# Altium footprint library sanziqi.PcbLib: 62 footprints (part 1 of 4)
Each footprint in its own frame and in the unit in brackets; x right, y up, seen from the top. Pads: shape width x height; smd on the part's side, far side on the other; paste and mask are expansions set on the pad; w line width, h text height; cw(c..) or ccw(c..) is an arc to the next point about the centre after c.
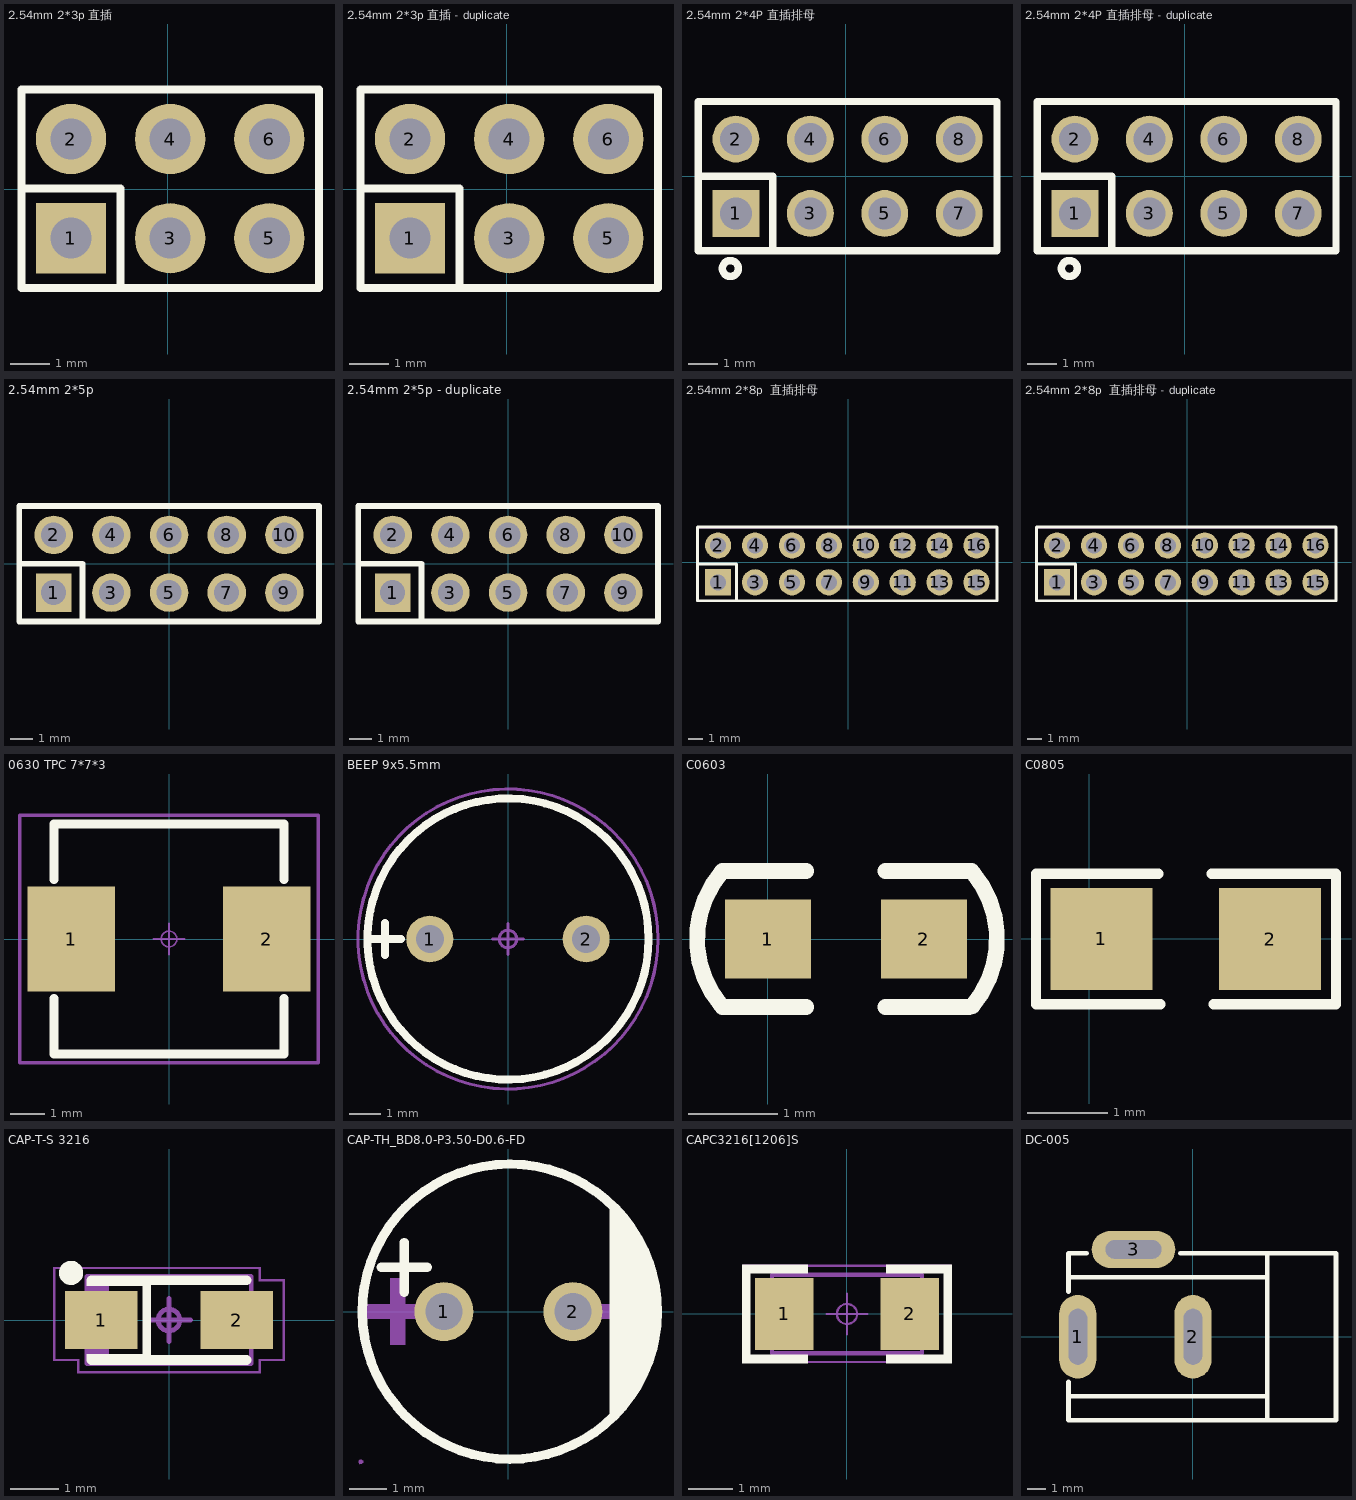
[diagram p0: the footprints below, top view; thin cyan lines are the x and y axes]

## 2.54mm 2*3p 直插 [mm]
height 2
pads (6):
  rect 1.8x1.8 hole 1.05 paste+0 mask+0.051: 1(-2.48,-1.25)
  round 1.8 hole 1.05 paste+0 mask+0.051: 2(-2.48,1.29) 3(0.06,-1.25) 4(0.06,1.29) 5(2.6,-1.25) 6(2.6,1.29)
Top Overlay:
  lines w0.203: -3.75,0.022 -1.21,0.022 -1.21,-2.52 ; -0.998,-2.52 3.87,-2.52 ; 3.87,-2.52 3.87,2.56 -3.75,2.56 -3.75,-2.52 3.87,-2.52
Bottom Component Outline:
  region: -3.69,-2.48 -3.69,-2.455 -3.725,-2.42 -3.775,-2.42 -3.81,-2.455 -3.81,-2.48 -3.81,-2.505 -3.775,-2.54 -3.725,-2.54 -3.69,-2.505
  region: -2.8,1.61 -2.16,1.61 -2.16,0.97 -2.8,0.97
  region: -2.8,-0.93 -2.16,-0.93 -2.16,-1.57 -2.8,-1.57
  region: -0.26,-0.93 0.38,-0.93 0.38,-1.57 -0.26,-1.57
  region: -0.26,1.61 0.38,1.61 0.38,0.97 -0.26,0.97
  region: 2.28,1.61 2.92,1.61 2.92,0.97 2.28,0.97
  region: 2.28,-0.93 2.92,-0.93 2.92,-1.57 2.28,-1.57
  lines w0.051: -3.75,-2.48 -3.75,2.52 3.87,2.52 3.87,-2.48 -3.75,-2.48

## 2.54mm 2*3p 直插 - duplicate [mm]
height 2
pads (6):
  rect 1.8x1.8 hole 1.05 paste+0 mask+0.051: 1(-2.48,-1.25)
  round 1.8 hole 1.05 paste+0 mask+0.051: 2(-2.48,1.29) 3(0.06,-1.25) 4(0.06,1.29) 5(2.6,-1.25) 6(2.6,1.29)
Top Overlay:
  lines w0.203: -3.75,0.022 -1.21,0.022 -1.21,-2.52 ; -0.998,-2.52 3.87,-2.52 ; 3.87,-2.52 -3.75,-2.52 -3.75,2.56 3.87,2.56 3.87,-2.52
Bottom Component Outline:
  region: 2.28,-0.93 2.92,-0.93 2.92,-1.57 2.28,-1.57
  region: 2.28,1.61 2.92,1.61 2.92,0.97 2.28,0.97
  region: -0.26,1.61 0.38,1.61 0.38,0.97 -0.26,0.97
  region: -0.26,-0.93 0.38,-0.93 0.38,-1.57 -0.26,-1.57
  region: -2.8,-0.93 -2.16,-0.93 -2.16,-1.57 -2.8,-1.57
  region: -2.8,1.61 -2.16,1.61 -2.16,0.97 -2.8,0.97
  region: -3.69,-2.48 -3.69,-2.455 -3.725,-2.42 -3.775,-2.42 -3.81,-2.455 -3.81,-2.48 -3.81,-2.505 -3.775,-2.54 -3.725,-2.54 -3.69,-2.505
  lines w0.051: -3.75,-2.48 3.87,-2.48 3.87,2.52 -3.75,2.52 -3.75,-2.48

## 2.54mm 2*4P 直插排母 [mm]
pads (8):
  rect 1.6x1.6 hole 1.1 paste+0 mask+0.051: 1(-3.75,-1.277)
  round 1.6 hole 1.1 paste+0 mask+0.051: 2(-3.75,1.263) 3(-1.21,-1.277) 4(-1.21,1.263) 5(1.33,-1.277) 6(1.33,1.263) 7(3.87,-1.277) 8(3.87,1.263)
Top Overlay:
  circle w0.254: c-3.94,-3.157 r0.272
  lines w0.254: -5.04,-0.007 -2.49,-0.007 -2.49,-2.557 ; -5.04,-2.557 5.16,-2.557 5.16,2.543 -5.04,2.543 -5.04,0.393 -5.04,-2.557
Bottom Component Outline:
  region: -4.96,-2.547 -4.96,-2.522 -4.995,-2.487 -5.045,-2.487 -5.08,-2.522 -5.08,-2.547 -5.08,-2.572 -5.045,-2.607 -4.995,-2.607 -4.96,-2.572
  region: 3.55,1.463 4.19,1.463 4.19,1.063 3.55,1.063
  region: 3.55,-1.077 4.19,-1.077 4.19,-1.477 3.55,-1.477
  region: 1.01,1.463 1.65,1.463 1.65,1.063 1.01,1.063
  region: 1.01,-1.077 1.65,-1.077 1.65,-1.477 1.01,-1.477
  region: -1.53,1.463 -0.89,1.463 -0.89,1.063 -1.53,1.063
  region: -1.53,-1.077 -0.89,-1.077 -0.89,-1.477 -1.53,-1.477
  region: -4.07,1.463 -3.43,1.463 -3.43,1.063 -4.07,1.063
  region: -4.07,-1.077 -3.43,-1.077 -3.43,-1.477 -4.07,-1.477
  lines w0.051: -5.02,-2.547 5.14,-2.547 5.14,2.533 -5.02,2.533 -5.02,-2.547

## 2.54mm 2*4P 直插排母 - duplicate [mm]
pads (8):
  rect 1.6x1.6 hole 1.1 paste+0 mask+0.051: 1(-3.75,-1.277)
  round 1.6 hole 1.1 paste+0 mask+0.051: 2(-3.75,1.263) 3(-1.21,-1.277) 4(-1.21,1.263) 5(1.33,-1.277) 6(1.33,1.263) 7(3.87,-1.277) 8(3.87,1.263)
Top Overlay:
  circle w0.254: c-3.94,-3.157 r0.272
  lines w0.254: -5.04,-0.007 -2.49,-0.007 -2.49,-2.557 ; -5.04,-2.557 -5.04,0.393 -5.04,2.543 5.16,2.543 5.16,-2.557 -5.04,-2.557
Bottom Component Outline:
  region: -4.07,-1.077 -3.43,-1.077 -3.43,-1.477 -4.07,-1.477
  region: -4.07,1.463 -3.43,1.463 -3.43,1.063 -4.07,1.063
  region: -1.53,-1.077 -0.89,-1.077 -0.89,-1.477 -1.53,-1.477
  region: -1.53,1.463 -0.89,1.463 -0.89,1.063 -1.53,1.063
  region: 1.01,-1.077 1.65,-1.077 1.65,-1.477 1.01,-1.477
  region: 1.01,1.463 1.65,1.463 1.65,1.063 1.01,1.063
  region: 3.55,-1.077 4.19,-1.077 4.19,-1.477 3.55,-1.477
  region: 3.55,1.463 4.19,1.463 4.19,1.063 3.55,1.063
  region: -4.96,-2.547 -4.96,-2.522 -4.995,-2.487 -5.045,-2.487 -5.08,-2.522 -5.08,-2.547 -5.08,-2.572 -5.045,-2.607 -4.995,-2.607 -4.96,-2.572
  lines w0.051: -5.02,-2.547 -5.02,2.533 5.14,2.533 5.14,-2.547 -5.02,-2.547

## 2.54mm 2*5p [mm]
pads (10):
  rect 1.575x1.7 hole 1.1 paste+0 mask+0.051: 1(-5.08,-1.27)
  round 1.7 hole 1.1 paste+0 mask+0.051: 2(-5.08,1.27) 3(-2.54,-1.27) 4(-2.54,1.27) 5(0,-1.27) 6(0,1.27) 7(2.54,-1.27) 8(2.54,1.27) 9(5.08,-1.27) 10(5.08,1.27)
Top Overlay:
  lines w0.254: -6.604,-2.54 -6.604,0 -3.81,0 -3.81,-2.54 -6.604,-2.54 ; -6.604,-2.54 -6.604,2.54 6.604,2.54 6.604,-2.54 -6.604,-2.54
Mechanical 15:
  region: 4.76,1.47 5.4,1.47 5.4,1.07 4.76,1.07
  region: 4.76,-1.07 5.4,-1.07 5.4,-1.47 4.76,-1.47
  region: 2.22,1.47 2.86,1.47 2.86,1.07 2.22,1.07
  region: 2.22,-1.07 2.86,-1.07 2.86,-1.47 2.22,-1.47
  region: -0.32,1.47 0.32,1.47 0.32,1.07 -0.32,1.07
  region: -0.32,-1.07 0.32,-1.07 0.32,-1.47 -0.32,-1.47
  region: -2.86,1.47 -2.22,1.47 -2.22,1.07 -2.86,1.07
  region: -2.86,-1.07 -2.22,-1.07 -2.22,-1.47 -2.86,-1.47
  region: -5.4,1.47 -4.76,1.47 -4.76,1.07 -5.4,1.07
  region: -5.4,-1.47 -5.4,-1.07 -4.76,-1.07 -4.76,-1.47
  region: -6.49,-2.5 -6.49,-2.475 -6.525,-2.44 -6.575,-2.44 -6.61,-2.475 -6.61,-2.5 -6.61,-2.525 -6.575,-2.56 -6.525,-2.56 -6.49,-2.525 -6.49,-2.5
  lines w0.051: -6.55,-2.5 6.55,-2.5 6.55,2.5 -6.55,2.5 -6.55,-2.5

## 2.54mm 2*5p - duplicate [mm]
pads (10):
  rect 1.575x1.7 hole 1.1 paste+0 mask+0.051: 1(-5.08,-1.27)
  round 1.7 hole 1.1 paste+0 mask+0.051: 2(-5.08,1.27) 3(-2.54,-1.27) 4(-2.54,1.27) 5(0,-1.27) 6(0,1.27) 7(2.54,-1.27) 8(2.54,1.27) 9(5.08,-1.27) 10(5.08,1.27)
Top Overlay:
  lines w0.254: -6.604,-2.54 6.604,-2.54 6.604,2.54 -6.604,2.54 -6.604,-2.54 ; -6.604,-2.54 -3.81,-2.54 -3.81,0 -6.604,0 -6.604,-2.54
Mechanical 15:
  region: -6.49,-2.5 -6.49,-2.475 -6.525,-2.44 -6.575,-2.44 -6.61,-2.475 -6.61,-2.5 -6.61,-2.525 -6.575,-2.56 -6.525,-2.56 -6.49,-2.525 -6.49,-2.5
  region: -5.4,-1.47 -5.4,-1.07 -4.76,-1.07 -4.76,-1.47
  region: -5.4,1.47 -4.76,1.47 -4.76,1.07 -5.4,1.07
  region: -2.86,-1.07 -2.22,-1.07 -2.22,-1.47 -2.86,-1.47
  region: -2.86,1.47 -2.22,1.47 -2.22,1.07 -2.86,1.07
  region: -0.32,-1.07 0.32,-1.07 0.32,-1.47 -0.32,-1.47
  region: -0.32,1.47 0.32,1.47 0.32,1.07 -0.32,1.07
  region: 2.22,-1.07 2.86,-1.07 2.86,-1.47 2.22,-1.47
  region: 2.22,1.47 2.86,1.47 2.86,1.07 2.22,1.07
  region: 4.76,-1.07 5.4,-1.07 5.4,-1.47 4.76,-1.47
  region: 4.76,1.47 5.4,1.47 5.4,1.07 4.76,1.07
  lines w0.051: -6.55,-2.5 -6.55,2.5 6.55,2.5 6.55,-2.5 -6.55,-2.5

## 2.54mm 2*8p  直插排母 [mm]
height 2
pads (16):
  rect 1.8x1.8 hole 1.1 paste+0 mask+0.051: 1(-8.959,-1.377)
  round 1.8 hole 1.1 paste+0 mask+0.051: 2(-8.959,1.163) 3(-6.419,-1.377) 4(-6.419,1.163) 5(-3.879,-1.377) 6(-3.879,1.163) 7(-1.339,-1.377) 8(-1.339,1.163) 9(1.201,-1.377) 10(1.201,1.163) 11(3.741,-1.377) 12(3.741,1.163) 13(6.281,-1.377) 14(6.281,1.163) 15(8.821,-1.377) 16(8.821,1.163)
Top Overlay:
  lines w0.203: -10.229,-0.107 -7.689,-0.107 -7.689,-2.647 ; -10.369,-2.647 -10.369,2.433 10.231,2.433 10.231,-2.647 -10.229,-2.647 -10.369,-2.647
Bottom Component Outline:
  region: -10.294,-2.607 -10.294,-2.582 -10.329,-2.547 -10.379,-2.547 -10.414,-2.582 -10.414,-2.607 -10.414,-2.632 -10.379,-2.667 -10.329,-2.667 -10.294,-2.632
  region: -9.279,-1.177 -8.639,-1.177 -8.639,-1.577 -9.279,-1.577
  region: -9.279,1.363 -8.639,1.363 -8.639,0.963 -9.279,0.963
  region: -6.739,-1.177 -6.099,-1.177 -6.099,-1.577 -6.739,-1.577
  region: -6.739,1.363 -6.099,1.363 -6.099,0.963 -6.739,0.963
  region: -4.199,-1.177 -3.559,-1.177 -3.559,-1.577 -4.199,-1.577
  region: -4.199,1.363 -3.559,1.363 -3.559,0.963 -4.199,0.963
  region: -1.659,-1.177 -1.019,-1.177 -1.019,-1.577 -1.659,-1.577
  region: -1.659,1.363 -1.019,1.363 -1.019,0.963 -1.659,0.963
  region: 0.881,-1.177 1.521,-1.177 1.521,-1.577 0.881,-1.577
  region: 0.881,1.363 1.521,1.363 1.521,0.963 0.881,0.963
  region: 3.421,-1.177 4.061,-1.177 4.061,-1.577 3.421,-1.577
  region: 3.421,1.363 4.061,1.363 4.061,0.963 3.421,0.963
  region: 5.961,-1.177 6.601,-1.177 6.601,-1.577 5.961,-1.577
  region: 5.961,1.363 6.601,1.363 6.601,0.963 5.961,0.963
  region: 8.501,-1.177 9.141,-1.177 9.141,-1.577 8.501,-1.577
  region: 8.501,1.363 9.141,1.363 9.141,0.963 8.501,0.963
  lines w0.051: -10.354,-2.607 -10.354,2.393 10.216,2.393 10.216,-2.607 -10.354,-2.607

## 2.54mm 2*8p  直插排母 - duplicate [mm]
height 2
pads (16):
  rect 1.8x1.8 hole 1.1 paste+0 mask+0.051: 1(-8.959,-1.377)
  round 1.8 hole 1.1 paste+0 mask+0.051: 2(-8.959,1.163) 3(-6.419,-1.377) 4(-6.419,1.163) 5(-3.879,-1.377) 6(-3.879,1.163) 7(-1.339,-1.377) 8(-1.339,1.163) 9(1.201,-1.377) 10(1.201,1.163) 11(3.741,-1.377) 12(3.741,1.163) 13(6.281,-1.377) 14(6.281,1.163) 15(8.821,-1.377) 16(8.821,1.163)
Top Overlay:
  lines w0.203: -10.229,-0.107 -7.689,-0.107 -7.689,-2.647 ; -10.369,-2.647 -10.369,2.433 10.231,2.433 10.231,-2.647 -10.229,-2.647 -10.369,-2.647
Bottom Component Outline:
  region: -10.294,-2.607 -10.294,-2.582 -10.329,-2.547 -10.379,-2.547 -10.414,-2.582 -10.414,-2.607 -10.414,-2.632 -10.379,-2.667 -10.329,-2.667 -10.294,-2.632
  region: -9.279,-1.177 -8.639,-1.177 -8.639,-1.577 -9.279,-1.577
  region: -9.279,1.363 -8.639,1.363 -8.639,0.963 -9.279,0.963
  region: -6.739,-1.177 -6.099,-1.177 -6.099,-1.577 -6.739,-1.577
  region: -6.739,1.363 -6.099,1.363 -6.099,0.963 -6.739,0.963
  region: -4.199,-1.177 -3.559,-1.177 -3.559,-1.577 -4.199,-1.577
  region: -4.199,1.363 -3.559,1.363 -3.559,0.963 -4.199,0.963
  region: -1.659,-1.177 -1.019,-1.177 -1.019,-1.577 -1.659,-1.577
  region: -1.659,1.363 -1.019,1.363 -1.019,0.963 -1.659,0.963
  region: 0.881,-1.177 1.521,-1.177 1.521,-1.577 0.881,-1.577
  region: 0.881,1.363 1.521,1.363 1.521,0.963 0.881,0.963
  region: 3.421,-1.177 4.061,-1.177 4.061,-1.577 3.421,-1.577
  region: 3.421,1.363 4.061,1.363 4.061,0.963 3.421,0.963
  region: 5.961,-1.177 6.601,-1.177 6.601,-1.577 5.961,-1.577
  region: 5.961,1.363 6.601,1.363 6.601,0.963 5.961,0.963
  region: 8.501,-1.177 9.141,-1.177 9.141,-1.577 8.501,-1.577
  region: 8.501,1.363 9.141,1.363 9.141,0.963 8.501,0.963
  lines w0.051: -10.354,-2.607 -10.354,2.393 10.216,2.393 10.216,-2.607 -10.354,-2.607

## 0630 TPC 7*7*3 [mm]
height 2
pads (2):
  rect 2.5x3 smd: 1(-2.8,0) 2(2.8,0)
Top Overlay:
  lines w0.254: -3.3,-1.7 -3.3,-3.3 3.3,-3.3 3.3,-1.7 ; -3.3,1.7 -3.3,3.3 3.3,3.3 3.3,1.7
Top Component Center:
  circle w0.05: c0,0 r0.225
  lines w0.05: -0.45,0 0.45,0 ; 0,-0.45 0,0.45
Top Component Outline:
  lines w0.1: -4.275,-3.55 -4.275,3.55 4.275,3.55 4.275,-3.55 -4.275,-3.55
Top Designator:
  text ".Designator" at -2.252,-0.226 h1
3D body: height 3, standoff 0, extent -3.3,-3.3 3.3,3.3

## BEEP 9x5.5mm [mm]
height 2
pads (2):
  round 1.5 hole 0.9: 1(-2.5,0) 2(2.5,0)
Top Overlay:
  circle w0.254: c0,0 r4.5
  lines w0.254: -4.496,0 -3.429,0 ; -3.937,-0.508 -3.937,0.508
Top Component Center:
  circle w0.1: c0,0 r0.28
  lines w0.1: -0.5,0 0.5,0 ; 0,-0.5 0,0.5
Top Component Outline:
  circle w0.1: c0,0 r4.8
Top Designator:
  text ".Designator" at -2.252,-0.226 h1
3D body "cx-0905c.stp": height 5.05, standoff -5.45, extent -4.8,-4.8 4.8,4.8

## C0603 [mil]
pads (2):
  rect 38x35 smd: 1(0,0) 2(69,0)
Top Overlay:
  lines w7: -21,-29 cw(c14.45,-0.04) -20.48,29.56 ; -20,-30 17,-30 ; -20,30 17,30 ; 52,-30 89,-30 ; 52,30 90,30 ; 90.48,-29.56 ccw(c55.55,0.04) 91,29
3D body "User Library-0603 SMD Capacitor.STEP": height 11.89, standoff 0, extent 3.8,-15.8 66.8,15.7

## C0805 [mil]
pads (2):
  rect 50x50 smd: 1(6,0) 2(88.7,-0.1)
Top Overlay:
  lines w5: 34,32 -26,32 -26,-15 -26,-32 35,-32 ; 60,32 121,32 121,15 121,-32 61,-32
3D body "User Library-0805 SMD Capacitor.STEP": height 30.39, standoff -0.39, extent 7.93,-24.5 86.67,24.71

## CAP-T-S 3216 [mm]
height 2
pads (2):
  rect 1.5x1.2 smd: 1(-1.4,0) 2(1.4,0)
Top Overlay:
  circle w0.25: c-2.025,0.975 r0.125
  rectangle: -0.55,-0.9 -0.375,0.85
  region: -0.375,-0.7 -1.7,-0.7 -1.7,-0.825 -0.375,-0.825
  rectangle: -1.7,0.7 -0.375,0.85
  lines w0.2: -1.6,-0.825 1.6,-0.825 ; -1.6,0.825 1.6,0.825
Top Component Center:
  circle w0.1: c0,0 r0.225
  lines w0.1: -0.45,0 0.45,0 ; 0,-0.45 0,0.45
Top Component Outline:
  region: -1.9,-1.05 -1.9,-1.1 1.9,-1.1 1.9,-1.05
  region: 2.4,0.85 2.35,0.85 2.35,-0.85 2.4,-0.85
  region: 1.9,1.05 1.9,1.1 -2.4,1.1 -2.4,1.05
  rectangle: -2.4,-0.85 -2.35,1.1
  region: 1.85,0.85 1.85,0.8 2.4,0.8 2.4,0.85
  rectangle: 1.85,0.8 1.9,1.1
  region: 2.4,-0.85 2.4,-0.8 1.85,-0.8 1.85,-0.85
  rectangle: 1.85,-1.1 1.9,-0.8
  region: -1.85,-0.85 -1.85,-0.8 -2.4,-0.8 -2.4,-0.85
  region: -1.85,-0.8 -1.9,-0.8 -1.9,-1.1 -1.85,-1.1
Top Designator:
  text ".Designator" at -2.252,-0.151 h1
Mechanical 13:
  rectangle: -1.7,-0.9 -1.243,0.9
  lines w0.1: -1.7,-0.9 1.7,-0.9 1.7,0.9 -1.7,0.9 -1.7,-0.9
3D body "TAJ-A.STEP": height 1.6, standoff 0, extent -1.6,-0.8 1.6,0.8

## CAP-TH_BD8.0-P3.50-D0.6-FD [mm]
pads (2):
  round 1.6 hole 1: 1(-1.75,0) 2(1.75,0)
Top Overlay:
  region: 2.75,-3 2.941,-2.8 3.268,-2.355 3.536,-1.872 3.741,-1.359 3.88,-0.824 3.95,-0.276 3.95,0.276 3.88,0.824 3.741,1.359 3.536,1.872 3.268,2.355 2.941,2.8 2.75,3
  lines w0.254: -3.445,1.2 -2.2,1.2 ; -2.822,0.527 -2.822,1.873 ; 0.003,4 ccw(c0.038,0.001) 0.074,4
Mechanical 6:
  region: -3.2,0.5 -3.2,-0.9 -2.8,-0.9 -2.8,0.7 -2.8,0.9 -3.2,0.9
  region: -2.5,0.2 -3.9,0.2 -3.9,-0.2 -2.3,-0.2 -2.1,-0.2 -2.1,0.2
  region: 3.5,0.2 2.1,0.2 2.1,-0.2 3.7,-0.2 3.9,-0.2 3.9,0.2
Mechanical 15:
  region: -1.45,0 -1.451,0.059 -1.498,0.167 -1.582,0.25 -1.691,0.294 -1.809,0.294 -1.918,0.25 -2.002,0.167 -2.049,0.059 -2.05,0 -2.049,-0.059 -2.002,-0.167 -1.918,-0.25 -1.809,-0.294 -1.691,-0.294 -1.582,-0.25 -1.498,-0.167 -1.451,-0.059 -1.45,0
  region: 2.05,0 2.049,0.059 2.002,0.167 1.918,0.25 1.809,0.294 1.691,0.294 1.582,0.25 1.498,0.167 1.451,0.059 1.45,0 1.451,-0.059 1.498,-0.167 1.582,-0.25 1.691,-0.294 1.809,-0.294 1.918,-0.25 2.002,-0.167 2.049,-0.059 2.05,0
  region: -3.941,-4.072 -3.941,-4.047 -3.976,-4.012 -4.026,-4.012 -4.061,-4.047 -4.061,-4.072 -4.061,-4.096 -4.026,-4.132 -3.976,-4.132 -3.941,-4.096 -3.941,-4.072
  lines w0.051: -0.003,-4.072 cw(c-0.001,-0.072) -0.001,3.928 cw(c-0.001,-0.072) 0,-4.072 -0.003,-4.072

## CAPC3216[1206]S [mm]
height 2
pads (2):
  rect 1.3x1.6 smd: 1(-1.4,0) 2(1.4,0)
Top Overlay:
  region: 2.346,-0.906 0.871,-0.906 0.871,-1.106 2.346,-1.106
  rectangle: -2.35,-1.1 -0.875,-0.9
  region: 2.346,1.106 0.871,1.106 0.871,0.906 2.346,0.906
  rectangle: -2.35,0.9 -0.875,1.1
  region: 2.35,-1.1 2.35,1.1 2.15,1.1 2.15,-1.1
  region: -2.35,1.1 -2.35,-1.1 -2.15,-1.1 -2.15,1.1
Top Component Center:
  circle w0.05: c0,0 r0.225
  lines w0.05: -0.45,0 0.45,0 ; 0,-0.45 0,0.45
Top Component Outline:
  lines w0.05: -2.325,-1.075 -2.325,1.075 2.325,1.075 2.325,-1.075 -2.325,-1.075
Top Designator:
  text ".Designator" at -2.252,-0.226 h1
Mechanical 13:
  lines w0.1: -1.675,-0.875 1.675,-0.875 1.675,0.875 -1.675,0.875 -1.675,-0.875
3D body "C 1206.STEP": height 1.21, standoff -0.01, extent -1.6,-0.81 1.6,0.81

## DC-005 [mm] "DC母座5.5mm"
height 12.75
pads (3):
  oval 2x4.5 hole 1 slot 3 at 90 deg: 1(-6.2,0) 2(0,0)
  oval 4.5x2 hole 1 slot 3 at 0 deg: 3(-3.2,4.7)
Top Overlay:
  lines w0.254: -6.7,-3.2 3.92,-3.2 ; -6.7,-2.424 -6.7,-4.5 7.7,-4.5 7.7,4.5 -0.685,4.5 ; -6.7,2.425 -6.7,4.5 -5.715,4.5 ; -6.7,3.2 3.92,3.2 ; 4,-4.5 4,4.5
3D body "DC-005.STEP": height 11.25, standoff -3.75, extent -6.55,-4.5 7.5,4.8